# Altium schematic symbol library Lib1.SchLib: 32 symbols
Pins are listed as number, name and electrical type; pins without a type are passive.

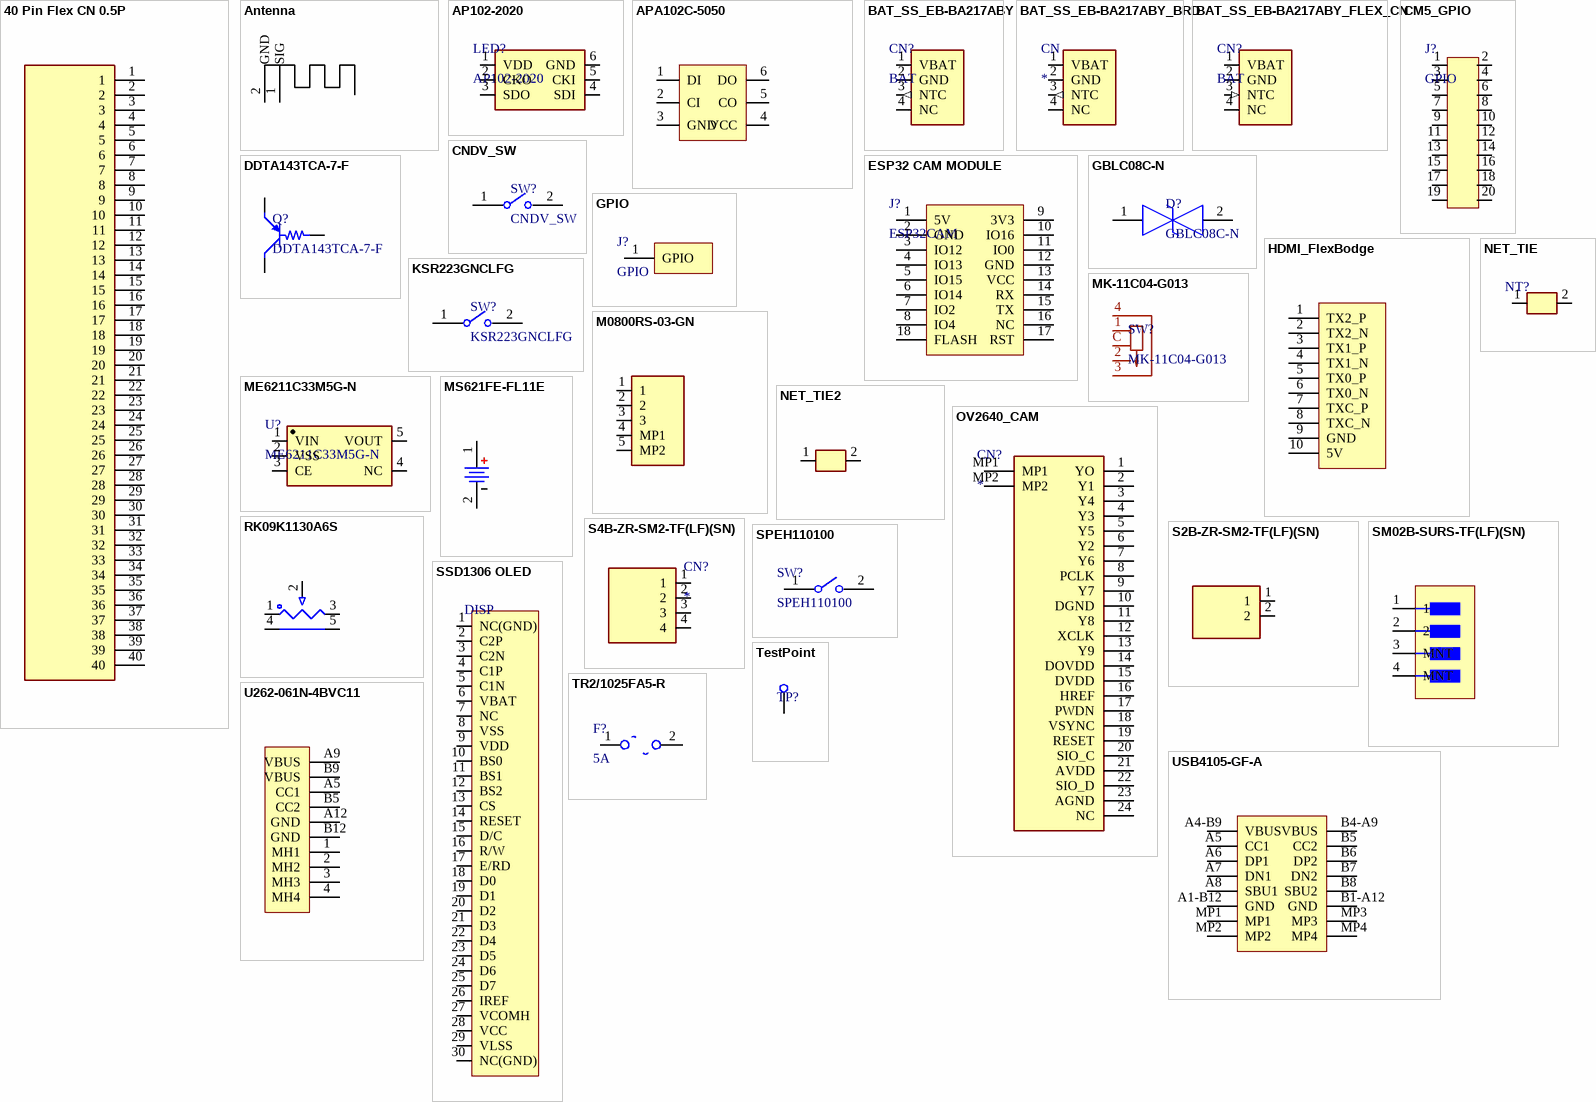
[diagram p0: symbols 40 Pin Flex CN 0.5P to USB4105-GF-A]

## 40 Pin Flex CN 0.5P
designator CN?
Switch; Manufacturer_Name: Apem; Manufacturer_Part_Number: APTCLGTVTR; Datasheet Link: https://media.digikey.com/pdf/Data%20Sheets/APEM%20Components%20PDFs/APTCLGTV.pdf; Height: 1.87mm; Mouser Part Number: 642-APTCLGTVTR; Mouser Price/Stock: https://www.mouser.co.uk/ProductDetail/Apem/APTCLGTVTR?qs=ikKlZSMjbcRNf%252Bwzp31ctg%3D%3D; Supplier 1: Mouser; Supplier Part Number 1: 642-APTCLGTVTR
footprint 40 Pin Flex CN 0.5P
pins: 1, 2, 3, 4, 5, 6, 7, 8, 9, 10, 11, 12, 13, 14, 15, 16, 17, 18, 19, 20, 21, 22, 23, 24, 25, 26, 27, 28, 29, 30, 31, 32, 33, 34, 35, 36, 37, 38, 39, 40

## Antenna
designator RF?
Antenna; Manufacturer_Name: Apem; Manufacturer_Part_Number: APTCLGTVTR; Datasheet Link: https://media.digikey.com/pdf/Data%20Sheets/APEM%20Components%20PDFs/APTCLGTV.pdf; Height: 1.87mm; Mouser Part Number: 642-APTCLGTVTR; Mouser Price/Stock: https://www.mouser.co.uk/ProductDetail/Apem/APTCLGTVTR?qs=ikKlZSMjbcRNf%252Bwzp31ctg%3D%3D; Supplier 1: Mouser; Supplier Part Number 1: 642-APTCLGTVTR
footprint SWRA117D
pins: 1 SIG, 2 GND

## AP102-2020
designator LED?
DotStar Micro RGB
footprint AP102-2020
pins: 1 VDD, 2 CKO, 3 SDO, 4 SDI, 5 CKI, 6 GND

## APA102C-5050
designator LED?
Addressable RGB LED 5 x 5mm; Manufacturer_Name: Apem; Datasheet Link: https://media.digikey.com/pdf/Data%20Sheets/APEM%20Components%20PDFs/APTCLGTV.pdf; Height: 1.87mm; Manufacturer_Part_Number: APA102C-5050; Mouser Part Number: 474-COM-14863; Supplier 1: Mouser
footprint APA102C-5050
pins: 1 DI, 2 CI, 3 GND, 4 VCC, 5 CO, 6 DO

## BAT_SS_EB-BA217ABY
designator CN?, comment BAT
Samsung battery connector
footprint BAT_SS_EB-BA217ABY
pins: 1 VBAT (power), 2 GND (power), 3 NTC (out), 4 NC (power)

## BAT_SS_EB-BA217ABY_BRD
designator CN
Samsung battery connector
footprint BAT_SS_EB-BA217ABY_BRD
pins: 1 VBAT (power), 2 GND (power), 3 NTC (out), 4 NC (power)

## BAT_SS_EB-BA217ABY_FLEX_CN
designator CN?, comment BAT
Samsung battery connector
footprint BAT_SS_EB-BA217ABY_FLEX_CN (Samsung 5Ah Battery Flex Connector)
pins: 1 VBAT (power), 2 GND (power), 3 NTC (in), 4 NC (power)

## CM5_GPIO
designator J?, comment GPIO
SPARE GPIO BREAKOUT
footprint CM5_GPIO
pins: 1, 2, 3, 4, 5, 6, 7, 8, 9, 10, 11, 12, 13, 14, 15, 16, 17, 18, 19, 20

## CNDV_SW
designator SW?
Conductive Pad Switch
footprint L4.0-W4.0-CNDV-PAD (Conductive Pad Switch)
pins: 1, 2

## DDTA143TCA-7-F
designator Q?
PNP TRANSISTOR
footprint SOT96P240X120-3N
pins: 1 B, 2 E, 3 C

## ESP32 CAM MODULE
designator J?, comment ESP32CAM
footprint ESP32CAM
pins: 1 5V, 2 GND, 3 IO12, 4 IO13, 5 IO15, 6 IO14, 7 IO2, 8 IO4, 9 3V3, 10 IO16, 11 IO0, 12 GND, 13 VCC, 14 RX, 15 TX, 16 NC, 17 RST, 18 FLASH

## GBLC08C-N
designator D?
ESD DIODE-BI_LCSC#C314256
footprint SOD-323_L1.8-W1.3-LS2.5-BI
pins: 1, 2

## GPIO
designator J?
AUX_I/O
footprint GPIO (AUX GPIO PAD)
pins: 1 GPIO

## HDMI_FlexBodge
designator CN?
Switch; Manufacturer_Name: Apem; Manufacturer_Part_Number: APTCLGTVTR; Datasheet Link: https://media.digikey.com/pdf/Data%20Sheets/APEM%20Components%20PDFs/APTCLGTV.pdf; Height: 1.87mm; Mouser Part Number: 642-APTCLGTVTR; Mouser Price/Stock: https://www.mouser.co.uk/ProductDetail/Apem/APTCLGTVTR?qs=ikKlZSMjbcRNf%252Bwzp31ctg%3D%3D; Supplier 1: Mouser; Supplier Part Number 1: 642-APTCLGTVTR
footprint HDMI_FlexBodge
pins: 1 TX2_P, 2 TX2_N, 3 TX1_P, 4 TX1_N, 5 TX0_P, 6 TX0_N, 7 TXC_P, 8 TXC_N, 9 GND, 10 5V

## KSR223GNCLFG
designator SW?
NC_SPST_MOMENTARY SWITCH
footprint KEY-SMD_L6.0-W3.8-LS7.3
pins: 1, 2

## M0800RS-03-GN
designator CN?
Connector; Manufacturer: XFCN; Manufacturer_Part_Number: M0800RS-03-GN; Supplier: LCSC; Supplier Part Number: C509165
footprint M0800RS-03-GN
pins: 1 (power), 2 (power), 3, 4 MP1 (power), 5 MP2 (power)

## ME6211C33M5G-N
designator U?
LCSC +3.3V LDO 500mA VDIF=120mV@100mA
footprint SOT95P270X145-5N
pins: 1 VIN, 2 VSS, 3 CE, 4 NC, 5 VOUT

## MK-11C04-G013
designator SW?
SPDT 1A 6V Slide Switch; Supplier 1: LCSC; Supplier Part Number 1: C778185
footprint SW-SMD_MK-11C04-G013
pins: 1 (power), 2, 3 NC (power), 4 (power), C (power)

## MS621FE-FL11E
designator BAT?
Battery; Manufacturer_Name: Apem; Manufacturer_Part_Number: MS621FE-FL11E; Datasheet Link: https://media.digikey.com/pdf/Data%20Sheets/APEM%20Components%20PDFs/APTCLGTV.pdf; Height: 1.87mm; Mouser Part Number: 628-MS621FE-FL11E; Mouser Price/Stock: https://www.mouser.co.uk/ProductDetail/Apem/APTCLGTVTR?qs=ikKlZSMjbcRNf%252Bwzp31ctg%3D%3D; Supplier: Mouser; Supplier Part Number: 628-MS621FE-FL11E
footprint MS621FE-FL11E
pins: 1 POS, 2 NEG

## NET_TIE
designator NT?  (net tie, no BOM)
NET_TIE
footprint NET_TIE1
pins: 1, 2

## NET_TIE2
designator NT?, comment NET_TIE
Switch; Manufacturer_Name: Apem; Manufacturer_Part_Number: APTCLGTVTR; Datasheet Link: https://media.digikey.com/pdf/Data%20Sheets/APEM%20Components%20PDFs/APTCLGTV.pdf; Height: 1.87mm; Mouser Part Number: 642-APTCLGTVTR; Mouser Price/Stock: https://www.mouser.co.uk/ProductDetail/Apem/APTCLGTVTR?qs=ikKlZSMjbcRNf%252Bwzp31ctg%3D%3D; Supplier 1: Mouser; Supplier Part Number 1: 642-APTCLGTVTR
footprint NET_TIE2
pins: 1, 2

## OV2640_CAM
designator CN?
Connector: Molex 503480-2400; CN_MPN: 503480-2400
footprint 5034802400
pins: 1 YO, 2 Y1, 3 Y4, 4 Y3, 5 Y5, 6 Y2, 7 Y6, 8 PCLK, 9 Y7, 10 DGND, 11 Y8, 12 XCLK, 13 Y9, 14 DOVDD, 15 DVDD, 16 HREF, 17 PWDN, 18 VSYNC, 19 RESET, 20 SIO_C, 21 AVDD, 22 SIO_D, 23 AGND, 24 NC, MP1, MP2

## RK09K1130A6S
designator VR?
Linear Potentiometer; Manufacturer_Name: Alps Alpine; Datasheet Link: https://media.digikey.com/pdf/Data%20Sheets/APEM%20Components%20PDFs/APTCLGTV.pdf; Height: 1.87mm; Manufacturer_Part_Number: RK09K1130A6S; Mouser Part Number: 688-RK09K1130A6S; Supplier 1: Mouser; Supplier Part Number 1: 642-APTCLGTVTR
footprint RK09K1130A6S
pins: 1, 2, 3, 4 MH1, 5 MH2

## S2B-ZR-SM2-TF(LF)(SN)
designator CN?
Connector; Manufacturer_Name: Apem; Manufacturer_Part_Number: APTCLGTVTR; Datasheet Link: https://media.digikey.com/pdf/Data%20Sheets/APEM%20Components%20PDFs/APTCLGTV.pdf; Height: 1.87mm; Mouser Part Number: 642-APTCLGTVTR; Mouser Price/Stock: https://www.mouser.co.uk/ProductDetail/Apem/APTCLGTVTR?qs=ikKlZSMjbcRNf%252Bwzp31ctg%3D%3D; Supplier 1: Mouser; Supplier Part Number 1: 642-APTCLGTVTR
footprint S2B-ZR-SM2-TF(LF)(SN)
pins: 1, 2

## S4B-ZR-SM2-TF(LF)(SN)
designator CN?
Connector; Manufacturer_Part_Number: S4B-ZR-SM2-TF(LF)(SN); Supplier_Part_Number: C485354; Supplier: LCSC
footprint S4B-ZR-SM2-TF(LF)(SN)
pins: 1, 2, 3, 4

## SM02B-SURS-TF(LF)(SN)
designator CN?
Connector; Manufacturer_Name: Apem; Datasheet Link: https://media.digikey.com/pdf/Data%20Sheets/APEM%20Components%20PDFs/APTCLGTV.pdf; Height: 1.87mm; Manufacturer_Part_Number: SM02B-SURS-TF(LF)(SN); Mouser Part Number: 306-SM02B-SURS-TF(LF)(SN); Mouser Price/Stock: https://www.mouser.co.uk/ProductDetail/Apem/APTCLGTVTR?qs=ikKlZSMjbcRNf%252Bwzp31ctg%3D%3D; Supplier 1: Mouser; LCSC_Part_Number: C566239
footprint SM02B-SURS-TF(LF)(SN)
pins: 1, 2, 3 MNT, 4 MNT

## SPEH110100
designator SW?
Pushbutton; Manufacturer: Alpsalpine; SPN: C97448; MPN: SPEH110100; Supplier: LCSC
footprint SPEH110100 (Pushbutton)
pins: 1, 2

## SSD1306 OLED
designator DISP  (value not drawn)
128x64 OLED 12C
footprint SSD1306-30P
pins: 1 NC(GND), 2 C2P, 3 C2N, 4 C1P, 5 C1N, 6 VBAT, 7 NC, 8 VSS, 9 VDD, 10 BS0, 11 BS1, 12 BS2, 13 CS, 14 RESET, 15 D/C, 16 R/W, 17 E/RD, 18 D0, 19 D1, 20 D2, 21 D3, 22 D4, 23 D5, 24 D6, 25 D7, 26 IREF, 27 VCOMH, 28 VCC, 29 VLSS, 30 NC(GND)

## TestPoint
designator TP?  (no BOM)
TestPoint
footprint TP
pins: 1

## TR2/1025FA5-R
designator F?, comment 5A
250VAC 5A 50V@250VAC
footprint TR2/1025FA5-R
pins: 1, 2

## U262-061N-4BVC11
designator CN?
USB-C Connector; Manufacturer_Name: XKB Connection; Manufacturer_Part_Number: U262-061N-4BVC11; LCSC Part Number: C2764612; Supplier 1: LCSC
footprint USB-SMD_U262-061N-4BVC11
pins: 1 MH1, 2 MH2, 3 MH3, 4 MH4, A5 CC1, A9 VBUS, A12 GND, B5 CC2, B9 VBUS, B12 GND

## USB4105-GF-A
designator CN?
USB-C Connector; Manufacturer_Name: Apem; Datasheet Link: https://media.digikey.com/pdf/Data%20Sheets/APEM%20Components%20PDFs/APTCLGTV.pdf; Height: 1.87mm; Manufacturer_Part_Number: USB4105-GF-A; Mouser Part Number: 640-USB4105-GF-A
footprint USB4105-GF-A
pins: A1-B12 GND, A4-B9 VBUS, A5 CC1, A6 DP1, A7 DN1, A8 SBU1, B1-A12 GND, B4-A9 VBUS, B5 CC2, B6 DP2, B7 DN2, B8 SBU2, MP1, MP2, MP3, MP4